# Altium schematic symbol library ind_0.Schlib: 1 symbol
Pins are listed as number, name and electrical type; pins without a type are passive.

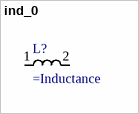
[diagram p0: symbol ind_0]

## ind_0
designator L?
Inductor, no core
pins: 1, 2